# Altium integrated library TI Interface Optical Module IC.IntLib: 48 symbols (part 3 of 4)
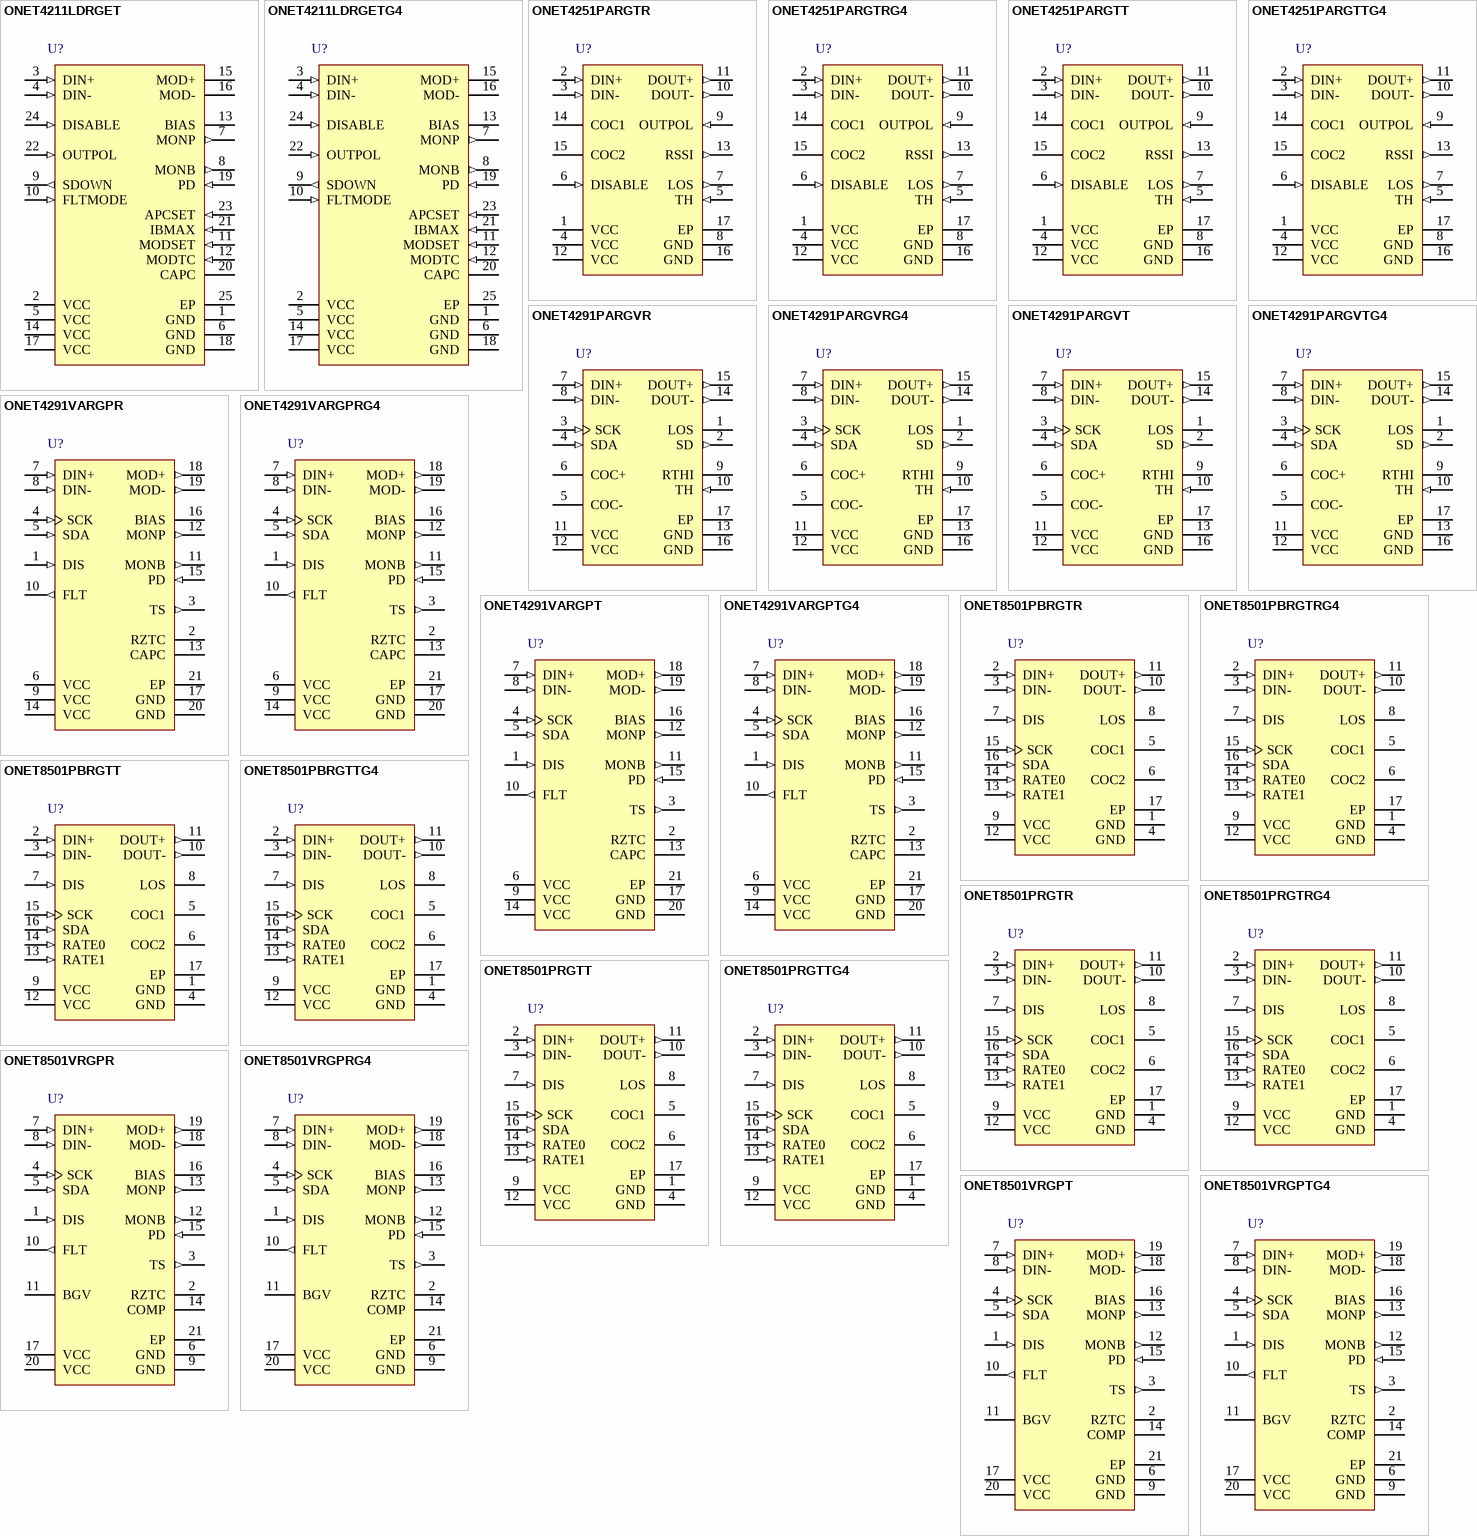
[diagram p3: symbols ONET4211LDRGET to ONET8501VRGPTG4]

## ONET4291PARGVT
designator U?
1-Gbps to 4.25-Gbps Rate-Selectable Limiting Amplifier, 42dB, -40 to 85 degC, 16-Pin VQFN (RGV), Green (RoHS & no Sb/Br); Manufacturer: Texas Instruments; PartNumber: ONET4291PARGVT; Bandwidth Select: TRUE; DJ(Typ)(ps): 5; Gain(Typ)(dB): 42; ICC(Max)(mA): 64; ICC(Nom)(mA): 36; RJ(Max)(ps): 1.5; tf(Typ)(ps): 45; VCC(V): 3.3; Vin Max(Min)(mV p-p): 2000; Vin Min(Nom)(mV p-p): 2.5; DatasheetVersion: SLLS671; PackageVersion: revF, Jun-2011; PackageReference: RGV16-2160X2160TP; PackageDescription: 16-Pin Plastic Quad Flat No-Lead, 4 x 4 mm Body, 0.65 mm Pitch, 2.16 x 2.16 mm Exposed Pad; Supplier 1: Digi-Key; Supplier Part Number 1: ONET4291PARGVT-ND; Supplier 2: Mouser; Supplier Part Number 2: 595-ONET4291PARGVT; Data Rate(Typ)(Gbps): 1-4.25; Eco-Plan: Green (RoHS & no Sb/Br); LOS: TRUE; SubFamily: Limiting Amplifier; tr(Typ)(ps): 45; Mounting Technology: Surface Mount; ComponentLink1Description: Datasheet; ComponentLink1URL: http://www.ti.com/general/docs/lit/getliterature.tsp?genericPartNumber=ONET4291PA&fileType=pdf; ComponentLink2Description: URL Link1; ComponentLink2URL: SamplesURL:http://www.ti.com/product/onet4291pa#samples
footprint RGV16-2160X2160TP (QFN, 16-Leads, Body 4x4mm, Pitch 0.65mm, Thermal Pad 2.16x2.16mm, TI Recommended)
pins: 1 LOS (oc) "High level indicates that the input signal amplitude is below the programmed threshold level.Open-drain output. Requires an external 10-k ohm pullup resistor to VCC for proper operation.", 2 SD (out) "High level indicates that sufficient input signal amplitude is applied to the device. Low level indicates that the input signal amplitude is below the progranned threshold level.", 3 SCK (in) "Two-wire interface serial clock. Includes a 100-k ohm pullup resistor to VCC.", 4 SDA (in) "Two-wire interface serial data input. Includes a 100-k ohm pullup resistor to VCC.", 5 COC- "Offset cancellation filter capacitor minus terminal. An external 0.1-uF filter capacitor must be connectde between this terminal and COC+ (terminal 6)", 6 COC+ "Offset cancellation filter capacitor plus terminal. An external 0.1-uF filter capacitor must be connected between this terminal and COC- (terminal 5)", 7 DIN+ (in) "Non-inverted data input. On-chip 50-ohm terminated to COC+. Differentially 100-ohm terminated to DIN-", 8 DIN- (in) "Inverted data input. On-chip 50-ohm terminated to COC-. Differentially 100-ohm terminated to to DIN+", 9 RTHI "Digitally controlled internal resistor to ground, which can be used for LOS threshold adjustment. A 6-bit-wide control register can be set via the two-wire interface.", 10 TH (in) "LOS threshold adjustment with resistor to GND. For use of the internal digitally controlled resistor,connect TH with RTHI (terminal 9)", 11 VCC (power) "3.3V, +10%/-12% supply voltage", 12 VCC (power) "3.3V, +10%/-12% supply voltage", 13 GND (power) "Circuit ground", 14 DOUT- (out) "Inverted data output. On-chip 50-ohm back-terminated to VCC.", 15 DOUT+ (out) "Non-inverted data output. On-chip 50-ohm back-terminated to VCC.", 16 GND (power) "Circuit ground", 17 EP (power) "Exposed die pad (EP) must be grounded."

## ONET4291PARGVTG4
designator U?
1-Gbps to 4.25-Gbps Rate-Selectable Limiting Amplifier, 42dB, -40 to 85 degC, 16-Pin VQFN (RGV), Green (RoHS & no Sb/Br); Manufacturer: Texas Instruments; PartNumber: ONET4291PARGVTG4; Bandwidth Select: TRUE; DJ(Typ)(ps): 5; Gain(Typ)(dB): 42; ICC(Max)(mA): 64; ICC(Nom)(mA): 36; RJ(Max)(ps): 1.5; tf(Typ)(ps): 45; VCC(V): 3.3; Vin Max(Min)(mV p-p): 2000; Vin Min(Nom)(mV p-p): 2.5; DatasheetVersion: SLLS671; PackageVersion: revF, Jun-2011; PackageReference: RGV16-2160X2160TP; PackageDescription: 16-Pin Plastic Quad Flat No-Lead, 4 x 4 mm Body, 0.65 mm Pitch, 2.16 x 2.16 mm Exposed Pad; Supplier 1: Digi-Key; Supplier Part Number 1: ONET4291PARGVTG4-ND; Supplier 2: Mouser; Supplier Part Number 2: 595-ONET4291PARGVTG4; Data Rate(Typ)(Gbps): 1-4.25; Eco-Plan: Green (RoHS & no Sb/Br); LOS: TRUE; SubFamily: Limiting Amplifier; tr(Typ)(ps): 45; Mounting Technology: Surface Mount; ComponentLink1Description: Datasheet; ComponentLink1URL: http://www.ti.com/general/docs/lit/getliterature.tsp?genericPartNumber=ONET4291PA&fileType=pdf; ComponentLink2Description: URL Link1; ComponentLink2URL: SamplesURL:http://www.ti.com/product/onet4291pa#samples
footprint RGV16-2160X2160TP (QFN, 16-Leads, Body 4x4mm, Pitch 0.65mm, Thermal Pad 2.16x2.16mm, TI Recommended)
pins: 1 LOS (oc) "High level indicates that the input signal amplitude is below the programmed threshold level.Open-drain output. Requires an external 10-k ohm pullup resistor to VCC for proper operation.", 2 SD (out) "High level indicates that sufficient input signal amplitude is applied to the device. Low level indicates that the input signal amplitude is below the progranned threshold level.", 3 SCK (in) "Two-wire interface serial clock. Includes a 100-k ohm pullup resistor to VCC.", 4 SDA (in) "Two-wire interface serial data input. Includes a 100-k ohm pullup resistor to VCC.", 5 COC- "Offset cancellation filter capacitor minus terminal. An external 0.1-uF filter capacitor must be connectde between this terminal and COC+ (terminal 6)", 6 COC+ "Offset cancellation filter capacitor plus terminal. An external 0.1-uF filter capacitor must be connected between this terminal and COC- (terminal 5)", 7 DIN+ (in) "Non-inverted data input. On-chip 50-ohm terminated to COC+. Differentially 100-ohm terminated to DIN-", 8 DIN- (in) "Inverted data input. On-chip 50-ohm terminated to COC-. Differentially 100-ohm terminated to to DIN+", 9 RTHI "Digitally controlled internal resistor to ground, which can be used for LOS threshold adjustment. A 6-bit-wide control register can be set via the two-wire interface.", 10 TH (in) "LOS threshold adjustment with resistor to GND. For use of the internal digitally controlled resistor,connect TH with RTHI (terminal 9)", 11 VCC (power) "3.3V, +10%/-12% supply voltage", 12 VCC (power) "3.3V, +10%/-12% supply voltage", 13 GND (power) "Circuit ground", 14 DOUT- (out) "Inverted data output. On-chip 50-ohm back-terminated to VCC.", 15 DOUT+ (out) "Non-inverted data output. On-chip 50-ohm back-terminated to VCC.", 16 GND (power) "Circuit ground", 17 EP (power) "Exposed die pad (EP) must be grounded."

## ONET4291VARGPR
designator U?
4.25 Gbps VCSEL Driver with Serial Interface and 2 Wire Interface, 14 mA Imod-Max, 3.3 V, -40 to +85 degC, 20-pin QFN (RGP), Green (RoHS & no Sb/Br); Manufacturer: Texas Instruments; PartNumber: ONET4291VARGPR; 2-Wire Interface: TRUE; Data Rate(Typ)(Gbps): 1 to 4.25; DJ(Typ)(ps): 7; Ibias-max(Max)(mA): 11; ICC(Max)(mA): 46; ICC(Typ)(mA): 40; Imod-max(Max)(mA): 14; SubFamily: Laser Driver; Tf-out(Typ)(ps): 35; VCC(V): 3.3; DatasheetVersion: SLLS674; PackageVersion: revG, Jul-2011; PackageReference: RGP20-2700X2700TP; PackageDescription: 20-Pin Plastic Quad Flatpack No-Lead, 4 x 4 mm Body, 0.5 mm Pitch; Supplier 1: Digi-Key; Supplier Part Number 1: ONET4291VARGPR-ND; Supplier 2: Newark; Supplier Part Number 2: 57K1186; Supplier 3: Mouser; Supplier Part Number 3: 595-ONET4291VARGPR; Automatic Power Control Loop: TRUE; Bias Current Digital Select: TRUE; Eco-Plan: Green (RoHS & no Sb/Br); Modulation Current Digital Select: TRUE; Tr-out(Typ)(ps): 35; Mounting Technology: Surface Mount; Code_JEDEC: MO-220; ComponentLink1Description: Datasheet; ComponentLink1URL: http://www.ti.com/general/docs/lit/getliterature.tsp?genericPartNumber=ONET4291VA&fileType=pdf; ComponentLink2Description: URL Link1; ComponentLink2URL: SamplesURL:http://www.ti.com/product/onet4291va#samples
footprint RGP20-2700X2700TP (QFN, 20-Leads, Body 4x4mm, Pitch 0.5mm, Thermal Pad 2.7x2.7mm, TI Recommended)
pins: 1 DIS (in) "Disables both bias and modulation current when set to high state. Toggle to reset a fault condition", 2 RZTC "Connect external zero TC 30-k ohm to ground (GND). Used to generate a defined zero TC reference current for internal DACs.", 3 TS (out) "Temperature sensor output. Not buffered, capacitive load only.", 4 SCK (in) "2-wire interface serial clock. Includes a 100-k ohm pullup resistor to VCC.", 5 SDA (in) "2-wire interface serial data input. Includes a 100-k ohm pullup resistor to VCC", 6 VCC (power) "3.3-V +/-10% supply voltage", 7 DIN+ (in) "Non-inverted data input. On-chip differentially 100-ohm terminated to DIN-. Must be ac coupled.", 8 DIN- (in) "Inverted data input. On-chip differentially 100-ohm terminated to DIN+. Must be ac coupled.", 9 VCC (power) "3.3-V+/-10% supply voltage", 10 FLT (out) "Fault detection flag", 11 MONB (out) "Bias current monitor. Sources an 8.3% replica of the bias current. Connect an external resistor to ground (GND). If the voltage at this pin exceeds 1.2 V a fault is triggered.", 12 MONP (out) "Photodiode current monitor. Sources a 50% replica of the photodiode current. Connect an external resistor to ground (GND).", 13 CAPC "Compensation pin used to control the bandwidth of the APC loop. Connect a 0.01-uF capacitor to ground.", 14 VCC (power) "3.3-V +/-10% supply voltage", 15 PD (in) "Monitor photodiode input. The pin can source or sink current dependent on PDP register setting. Pin supplies >1.5-V reverse bias.", 16 BIAS "VCSEL diode bias current source. Connect to laser anode through inductor. Murata BLM15HG102SN1 is recommended.", 17 GND (power) "Circuit ground.", 18 MOD+ (out) "Non-inverted modulation current output. AC coupled to anode of common cathode VCSEL.On-chip 60-ohm back-terminated to VCC.", 19 MOD- (out) "Inverted modulation current output. AC coupled through VCSEL matching resistor to ground (GND). On-chip 60-ohm back-terminated to VCC.", 20 GND (power) "Circuit ground.", 21 EP (power) "The exposed die pad (EP) must be grounded."

## ONET4291VARGPRG4
designator U?
4.25 Gbps VCSEL Driver with Serial Interface and 2 Wire Interface, 14 mA Imod-Max, 3.3 V, -40 to +85 degC, 20-pin QFN (RGP), Green (RoHS & no Sb/Br); Manufacturer: Texas Instruments; PartNumber: ONET4291VARGPRG4; 2-Wire Interface: TRUE; Data Rate(Typ)(Gbps): 1 to 4.25; DJ(Typ)(ps): 7; Ibias-max(Max)(mA): 11; ICC(Max)(mA): 46; ICC(Typ)(mA): 40; Imod-max(Max)(mA): 14; SubFamily: Laser Driver; Tf-out(Typ)(ps): 35; VCC(V): 3.3; DatasheetVersion: SLLS674; PackageVersion: revG, Jul-2011; PackageReference: RGP20-2700X2700TP; PackageDescription: 20-Pin Plastic Quad Flatpack No-Lead, 4 x 4 mm Body, 0.5 mm Pitch; Supplier 1: Digi-Key; Supplier Part Number 1: ONET4291VARGPRG4-ND; Supplier 2: Newark; Supplier Part Number 2: 61K1313; Supplier 3: Mouser; Supplier Part Number 3: 595-ONET4291VARGPRG4; Automatic Power Control Loop: TRUE; Bias Current Digital Select: TRUE; Eco-Plan: Green (RoHS & no Sb/Br); Modulation Current Digital Select: TRUE; Tr-out(Typ)(ps): 35; Mounting Technology: Surface Mount; Code_JEDEC: MO-220; ComponentLink1Description: Datasheet; ComponentLink1URL: http://www.ti.com/general/docs/lit/getliterature.tsp?genericPartNumber=ONET4291VA&fileType=pdf; ComponentLink2Description: URL Link1; ComponentLink2URL: SamplesURL:http://www.ti.com/product/onet4291va#samples
footprint RGP20-2700X2700TP (QFN, 20-Leads, Body 4x4mm, Pitch 0.5mm, Thermal Pad 2.7x2.7mm, TI Recommended)
pins: 1 DIS (in) "Disables both bias and modulation current when set to high state. Toggle to reset a fault condition", 2 RZTC "Connect external zero TC 30-k ohm to ground (GND). Used to generate a defined zero TC reference current for internal DACs.", 3 TS (out) "Temperature sensor output. Not buffered, capacitive load only.", 4 SCK (in) "2-wire interface serial clock. Includes a 100-k ohm pullup resistor to VCC.", 5 SDA (in) "2-wire interface serial data input. Includes a 100-k ohm pullup resistor to VCC", 6 VCC (power) "3.3-V +/-10% supply voltage", 7 DIN+ (in) "Non-inverted data input. On-chip differentially 100-ohm terminated to DIN-. Must be ac coupled.", 8 DIN- (in) "Inverted data input. On-chip differentially 100-ohm terminated to DIN+. Must be ac coupled.", 9 VCC (power) "3.3-V+/-10% supply voltage", 10 FLT (out) "Fault detection flag", 11 MONB (out) "Bias current monitor. Sources an 8.3% replica of the bias current. Connect an external resistor to ground (GND). If the voltage at this pin exceeds 1.2 V a fault is triggered.", 12 MONP (out) "Photodiode current monitor. Sources a 50% replica of the photodiode current. Connect an external resistor to ground (GND).", 13 CAPC "Compensation pin used to control the bandwidth of the APC loop. Connect a 0.01-uF capacitor to ground.", 14 VCC (power) "3.3-V +/-10% supply voltage", 15 PD (in) "Monitor photodiode input. The pin can source or sink current dependent on PDP register setting. Pin supplies >1.5-V reverse bias.", 16 BIAS "VCSEL diode bias current source. Connect to laser anode through inductor. Murata BLM15HG102SN1 is recommended.", 17 GND (power) "Circuit ground.", 18 MOD+ (out) "Non-inverted modulation current output. AC coupled to anode of common cathode VCSEL.On-chip 60-ohm back-terminated to VCC.", 19 MOD- (out) "Inverted modulation current output. AC coupled through VCSEL matching resistor to ground (GND). On-chip 60-ohm back-terminated to VCC.", 20 GND (power) "Circuit ground.", 21 EP (power) "The exposed die pad (EP) must be grounded."

## ONET4291VARGPT
designator U?
4.25 Gbps VCSEL Driver with Serial Interface and 2 Wire Interface, 14 mA Imod-Max, 3.3 V, -40 to +85 degC, 20-pin QFN (RGP), Green (RoHS & no Sb/Br); Manufacturer: Texas Instruments; PartNumber: ONET4291VARGPT; 2-Wire Interface: TRUE; Data Rate(Typ)(Gbps): 1 to 4.25; DJ(Typ)(ps): 7; Ibias-max(Max)(mA): 11; ICC(Max)(mA): 46; ICC(Typ)(mA): 40; Imod-max(Max)(mA): 14; SubFamily: Laser Driver; Tf-out(Typ)(ps): 35; VCC(V): 3.3; DatasheetVersion: SLLS674; PackageVersion: revG, Jul-2011; PackageReference: RGP20-2700X2700TP; PackageDescription: 20-Pin Plastic Quad Flatpack No-Lead, 4 x 4 mm Body, 0.5 mm Pitch; Supplier 1: Digi-Key; Supplier Part Number 1: 296-22715-2-ND; Supplier 2: Digi-Key; Supplier Part Number 2: 296-22715-1-ND; Supplier 3: Digi-Key; Supplier Part Number 3: 296-22715-6-ND; Supplier 4: Newark; Supplier Part Number 4: 24R9887; Supplier 5: Mouser; Supplier Part Number 5: 595-ONET4291VARGPT; Automatic Power Control Loop: TRUE; Bias Current Digital Select: TRUE; Eco-Plan: Green (RoHS & no Sb/Br); Modulation Current Digital Select: TRUE; Tr-out(Typ)(ps): 35; Mounting Technology: Surface Mount; Code_JEDEC: MO-220; ComponentLink1Description: Datasheet; ComponentLink1URL: http://www.ti.com/general/docs/lit/getliterature.tsp?genericPartNumber=ONET4291VA&fileType=pdf; ComponentLink2Description: URL Link1; ComponentLink2URL: SamplesURL:http://www.ti.com/product/onet4291va#samples
footprint RGP20-2700X2700TP (QFN, 20-Leads, Body 4x4mm, Pitch 0.5mm, Thermal Pad 2.7x2.7mm, TI Recommended)
pins: 1 DIS (in) "Disables both bias and modulation current when set to high state. Toggle to reset a fault condition", 2 RZTC "Connect external zero TC 30-k ohm to ground (GND). Used to generate a defined zero TC reference current for internal DACs.", 3 TS (out) "Temperature sensor output. Not buffered, capacitive load only.", 4 SCK (in) "2-wire interface serial clock. Includes a 100-k ohm pullup resistor to VCC.", 5 SDA (in) "2-wire interface serial data input. Includes a 100-k ohm pullup resistor to VCC", 6 VCC (power) "3.3-V +/-10% supply voltage", 7 DIN+ (in) "Non-inverted data input. On-chip differentially 100-ohm terminated to DIN-. Must be ac coupled.", 8 DIN- (in) "Inverted data input. On-chip differentially 100-ohm terminated to DIN+. Must be ac coupled.", 9 VCC (power) "3.3-V+/-10% supply voltage", 10 FLT (out) "Fault detection flag", 11 MONB (out) "Bias current monitor. Sources an 8.3% replica of the bias current. Connect an external resistor to ground (GND). If the voltage at this pin exceeds 1.2 V a fault is triggered.", 12 MONP (out) "Photodiode current monitor. Sources a 50% replica of the photodiode current. Connect an external resistor to ground (GND).", 13 CAPC "Compensation pin used to control the bandwidth of the APC loop. Connect a 0.01-uF capacitor to ground.", 14 VCC (power) "3.3-V +/-10% supply voltage", 15 PD (in) "Monitor photodiode input. The pin can source or sink current dependent on PDP register setting. Pin supplies >1.5-V reverse bias.", 16 BIAS "VCSEL diode bias current source. Connect to laser anode through inductor. Murata BLM15HG102SN1 is recommended.", 17 GND (power) "Circuit ground.", 18 MOD+ (out) "Non-inverted modulation current output. AC coupled to anode of common cathode VCSEL.On-chip 60-ohm back-terminated to VCC.", 19 MOD- (out) "Inverted modulation current output. AC coupled through VCSEL matching resistor to ground (GND). On-chip 60-ohm back-terminated to VCC.", 20 GND (power) "Circuit ground.", 21 EP (power) "The exposed die pad (EP) must be grounded."

## ONET4291VARGPTG4
designator U?
4.25 Gbps VCSEL Driver with Serial Interface and 2 Wire Interface, 14 mA Imod-Max, 3.3 V, -40 to +85 degC, 20-pin QFN (RGP), Green (RoHS & no Sb/Br); Manufacturer: Texas Instruments; PartNumber: ONET4291VARGPTG4; 2-Wire Interface: TRUE; Data Rate(Typ)(Gbps): 1 to 4.25; DJ(Typ)(ps): 7; Ibias-max(Max)(mA): 11; ICC(Max)(mA): 46; ICC(Typ)(mA): 40; Imod-max(Max)(mA): 14; SubFamily: Laser Driver; Tf-out(Typ)(ps): 35; VCC(V): 3.3; DatasheetVersion: SLLS674; PackageVersion: revG, Jul-2011; PackageReference: RGP20-2700X2700TP; PackageDescription: 20-Pin Plastic Quad Flatpack No-Lead, 4 x 4 mm Body, 0.5 mm Pitch; Supplier 1: Digi-Key; Supplier Part Number 1: ONET4291VARGPTG4-ND; Supplier 2: Newark; Supplier Part Number 2: 24R9888; Supplier 3: Mouser; Supplier Part Number 3: 595-ONET4291VARGPTG4; Automatic Power Control Loop: TRUE; Bias Current Digital Select: TRUE; Eco-Plan: Green (RoHS & no Sb/Br); Modulation Current Digital Select: TRUE; Tr-out(Typ)(ps): 35; Mounting Technology: Surface Mount; Code_JEDEC: MO-220; ComponentLink1Description: Datasheet; ComponentLink1URL: http://www.ti.com/general/docs/lit/getliterature.tsp?genericPartNumber=ONET4291VA&fileType=pdf; ComponentLink2Description: URL Link1; ComponentLink2URL: SamplesURL:http://www.ti.com/product/onet4291va#samples
footprint RGP20-2700X2700TP (QFN, 20-Leads, Body 4x4mm, Pitch 0.5mm, Thermal Pad 2.7x2.7mm, TI Recommended)
pins: 1 DIS (in) "Disables both bias and modulation current when set to high state. Toggle to reset a fault condition", 2 RZTC "Connect external zero TC 30-k ohm to ground (GND). Used to generate a defined zero TC reference current for internal DACs.", 3 TS (out) "Temperature sensor output. Not buffered, capacitive load only.", 4 SCK (in) "2-wire interface serial clock. Includes a 100-k ohm pullup resistor to VCC.", 5 SDA (in) "2-wire interface serial data input. Includes a 100-k ohm pullup resistor to VCC", 6 VCC (power) "3.3-V +/-10% supply voltage", 7 DIN+ (in) "Non-inverted data input. On-chip differentially 100-ohm terminated to DIN-. Must be ac coupled.", 8 DIN- (in) "Inverted data input. On-chip differentially 100-ohm terminated to DIN+. Must be ac coupled.", 9 VCC (power) "3.3-V+/-10% supply voltage", 10 FLT (out) "Fault detection flag", 11 MONB (out) "Bias current monitor. Sources an 8.3% replica of the bias current. Connect an external resistor to ground (GND). If the voltage at this pin exceeds 1.2 V a fault is triggered.", 12 MONP (out) "Photodiode current monitor. Sources a 50% replica of the photodiode current. Connect an external resistor to ground (GND).", 13 CAPC "Compensation pin used to control the bandwidth of the APC loop. Connect a 0.01-uF capacitor to ground.", 14 VCC (power) "3.3-V +/-10% supply voltage", 15 PD (in) "Monitor photodiode input. The pin can source or sink current dependent on PDP register setting. Pin supplies >1.5-V reverse bias.", 16 BIAS "VCSEL diode bias current source. Connect to laser anode through inductor. Murata BLM15HG102SN1 is recommended.", 17 GND (power) "Circuit ground.", 18 MOD+ (out) "Non-inverted modulation current output. AC coupled to anode of common cathode VCSEL.On-chip 60-ohm back-terminated to VCC.", 19 MOD- (out) "Inverted modulation current output. AC coupled through VCSEL matching resistor to ground (GND). On-chip 60-ohm back-terminated to VCC.", 20 GND (power) "Circuit ground.", 21 EP (power) "The exposed die pad (EP) must be grounded."

## ONET8501PBRGTR
designator U?
11.3-Gbps Rate-Selectable Limiting Amplifier, 34dB, -40 to 100 degC, 16-Pin QFN (RGT), Green (RoHS & no Sb/Br); Manufacturer: Texas Instruments; PartNumber: ONET8501PBRGTR; Bandwidth Select: TRUE; Data Rate(Typ)(Gbps): 11.3; DJ(Typ)(ps): 3; Gain(Typ)(dB): 34; ICC(Max)(mA): 63; ICC(Nom)(mA): 50; tf(Typ)(ps): 28; VCC(V): 3.3; Vin Max(Min)(mV p-p): 2000; Vin Min(Nom)(mV p-p): 5; Vout(Min)(mV p-p): 250; DatasheetVersion: SLLS910; PackageVersion: revH, Oct-2011; PackageReference: RGT16-1650X1650TP; PackageDescription: 16-Pin Plastic Quad Flat No-Lead, 3 x 3 mm Body, 0.5 mm Pitch, 1.7 x 1.7 mm Exposed Pad; Supplier 1: Digi-Key; Supplier Part Number 1: ONET8501PBRGTR-ND; Supplier 2: Newark; Supplier Part Number 2: 03P4600; Supplier 3: Mouser; Supplier Part Number 3: 595-ONET8501PBRGTR; Disable: TRUE; Eco-Plan: Green (RoHS & no Sb/Br); LOS: TRUE; SubFamily: Limiting Amplifier; tr(Typ)(ps): 28; Mounting Technology: Surface Mount; Code_JEDEC: MO-220; ComponentLink1Description: Datasheet; ComponentLink1URL: http://www.ti.com/general/docs/lit/getliterature.tsp?genericPartNumber=ONET8501PB&fileType=pdf; ComponentLink2Description: URL Link1; ComponentLink2URL: SamplesURL:http://www.ti.com/product/onet8501pb#samples
footprint RGT16-1650X1650TP (QFN, 16-Leads, Body 3x3mm, Pitch 0.5mm, Thermal Pad 1.7x1.7mm, TI Recommended)
pins: 1 GND (power) "Circuit ground.", 2 DIN+ (in) "Non-inverted data input. Differentially 100 ohm terminated to DIN-", 3 DIN- (in) "Inverted data input. Differentially 100 ohm terminated to DIN+", 4 GND (power) "Circuit ground", 5 COC1 "Offset cancellation filter capacitor plus terminal. An external capacitor can be connected between this pin and COC2 to reduce the low frequency cutoff.To disable the offset cancellation loop,connect COC1 and COC2 together.", 6 COC2 "Offset cancellation filter capacitor minus terminal. An external capacitor can be connected between this pin and COC1 to reduce the low frequency cutoff. To disable the offset cancellation loop, connect COC1 and COC2 (See Datasheet)", 7 DIS (in) "Disables the output stage when set to a high level.", 8 LOS (oc) "High level indicates that the input signal amplitude is below the programmed threshold level. Open drain output. Requires an external 10-k ohm pull-up resistor to VCC for proper operation.", 9 VCC (power) "3.3V +/- 10% supply voltage", 10 DOUT- (out) "Inverted data output. On-chip 50 ohm back-terminated to VCC.", 11 DOUT+ (out) "Non-inverted data output. On-chip 50 ohm back-terminated to VCC.", 12 VCC (power) "3.3V +/- 10% supply voltage.", 13 RATE1 (in) "Bandwidth selection for noise suppression.", 14 RATE0 (in) "Bandwidth selection for noise suppression", 15 SCK (in) "Serial interface clock input. Connect a pull-up resistor (10 k ohm typical) to VCC", 16 SDA (in) "Serial interface data input. Connect a pull-up resistor (10 k ohm typical) to VCC.", 17 EP (power) "Exposed die pad (EP) must be grounded"

## ONET8501PBRGTRG4
designator U?
11.3-Gbps Rate-Selectable Limiting Amplifier, 34dB, -40 to 100 degC, 16-Pin QFN (RGT), Green (RoHS & no Sb/Br); Manufacturer: Texas Instruments; PartNumber: ONET8501PBRGTRG4; Bandwidth Select: TRUE; Data Rate(Typ)(Gbps): 11.3; DJ(Typ)(ps): 3; Gain(Typ)(dB): 34; ICC(Max)(mA): 63; ICC(Nom)(mA): 50; tf(Typ)(ps): 28; VCC(V): 3.3; Vin Max(Min)(mV p-p): 2000; Vin Min(Nom)(mV p-p): 5; Vout(Min)(mV p-p): 250; DatasheetVersion: SLLS910; PackageVersion: revH, Oct-2011; PackageReference: RGT16-1650X1650TP; PackageDescription: 16-Pin Plastic Quad Flat No-Lead, 3 x 3 mm Body, 0.5 mm Pitch, 1.7 x 1.7 mm Exposed Pad; Supplier 1: Digi-Key; Supplier Part Number 1: ONET8501PBRGTRG4-ND; Supplier 2: Mouser; Supplier Part Number 2: 595-ONET8501PBRGTRG4; Disable: TRUE; Eco-Plan: Green (RoHS & no Sb/Br); LOS: TRUE; SubFamily: Limiting Amplifier; tr(Typ)(ps): 28; Mounting Technology: Surface Mount; Code_JEDEC: MO-220; ComponentLink1Description: Datasheet; ComponentLink1URL: http://www.ti.com/general/docs/lit/getliterature.tsp?genericPartNumber=ONET8501PB&fileType=pdf; ComponentLink2Description: URL Link1; ComponentLink2URL: SamplesURL:http://www.ti.com/product/onet8501pb#samples
footprint RGT16-1650X1650TP (QFN, 16-Leads, Body 3x3mm, Pitch 0.5mm, Thermal Pad 1.7x1.7mm, TI Recommended)
pins: 1 GND (power) "Circuit ground.", 2 DIN+ (in) "Non-inverted data input. Differentially 100 ohm terminated to DIN-", 3 DIN- (in) "Inverted data input. Differentially 100 ohm terminated to DIN+", 4 GND (power) "Circuit ground", 5 COC1 "Offset cancellation filter capacitor plus terminal. An external capacitor can be connected between this pin and COC2 to reduce the low frequency cutoff.To disable the offset cancellation loop,connect COC1 and COC2 together.", 6 COC2 "Offset cancellation filter capacitor minus terminal. An external capacitor can be connected between this pin and COC1 to reduce the low frequency cutoff. To disable the offset cancellation loop, connect COC1 and COC2 (See Datasheet)", 7 DIS (in) "Disables the output stage when set to a high level.", 8 LOS (oc) "High level indicates that the input signal amplitude is below the programmed threshold level. Open drain output. Requires an external 10-k ohm pull-up resistor to VCC for proper operation.", 9 VCC (power) "3.3V +/- 10% supply voltage", 10 DOUT- (out) "Inverted data output. On-chip 50 ohm back-terminated to VCC.", 11 DOUT+ (out) "Non-inverted data output. On-chip 50 ohm back-terminated to VCC.", 12 VCC (power) "3.3V +/- 10% supply voltage.", 13 RATE1 (in) "Bandwidth selection for noise suppression.", 14 RATE0 (in) "Bandwidth selection for noise suppression", 15 SCK (in) "Serial interface clock input. Connect a pull-up resistor (10 k ohm typical) to VCC", 16 SDA (in) "Serial interface data input. Connect a pull-up resistor (10 k ohm typical) to VCC.", 17 EP (power) "Exposed die pad (EP) must be grounded"

## ONET8501PBRGTT
designator U?
11.3-Gbps Rate-Selectable Limiting Amplifier, 34dB, -40 to 100 degC, 16-Pin QFN (RGT), Green (RoHS & no Sb/Br); Manufacturer: Texas Instruments; PartNumber: ONET8501PBRGTT; Bandwidth Select: TRUE; Data Rate(Typ)(Gbps): 11.3; DJ(Typ)(ps): 3; Gain(Typ)(dB): 34; ICC(Max)(mA): 63; ICC(Nom)(mA): 50; tf(Typ)(ps): 28; VCC(V): 3.3; Vin Max(Min)(mV p-p): 2000; Vin Min(Nom)(mV p-p): 5; Vout(Min)(mV p-p): 250; DatasheetVersion: SLLS910; PackageVersion: revH, Oct-2011; PackageReference: RGT16-1650X1650TP; PackageDescription: 16-Pin Plastic Quad Flat No-Lead, 3 x 3 mm Body, 0.5 mm Pitch, 1.7 x 1.7 mm Exposed Pad; Supplier 1: Digi-Key; Supplier Part Number 1: 296-23641-2-ND; Supplier 2: Digi-Key; Supplier Part Number 2: 296-23641-1-ND; Supplier 3: Digi-Key; Supplier Part Number 3: 296-23641-6-ND; Supplier 4: Newark; Supplier Part Number 4: 03P4601; Supplier 5: Mouser; Supplier Part Number 5: 595-ONET8501PBRGTT; Disable: TRUE; Eco-Plan: Green (RoHS & no Sb/Br); LOS: TRUE; SubFamily: Limiting Amplifier; tr(Typ)(ps): 28; Mounting Technology: Surface Mount; Code_JEDEC: MO-220; ComponentLink1Description: Datasheet; ComponentLink1URL: http://www.ti.com/general/docs/lit/getliterature.tsp?genericPartNumber=ONET8501PB&fileType=pdf; ComponentLink2Description: URL Link1; ComponentLink2URL: SamplesURL:http://www.ti.com/product/onet8501pb#samples
footprint RGT16-1650X1650TP (QFN, 16-Leads, Body 3x3mm, Pitch 0.5mm, Thermal Pad 1.7x1.7mm, TI Recommended)
pins: 1 GND (power) "Circuit ground.", 2 DIN+ (in) "Non-inverted data input. Differentially 100 ohm terminated to DIN-", 3 DIN- (in) "Inverted data input. Differentially 100 ohm terminated to DIN+", 4 GND (power) "Circuit ground", 5 COC1 "Offset cancellation filter capacitor plus terminal. An external capacitor can be connected between this pin and COC2 to reduce the low frequency cutoff.To disable the offset cancellation loop,connect COC1 and COC2 together.", 6 COC2 "Offset cancellation filter capacitor minus terminal. An external capacitor can be connected between this pin and COC1 to reduce the low frequency cutoff. To disable the offset cancellation loop, connect COC1 and COC2 (See Datasheet)", 7 DIS (in) "Disables the output stage when set to a high level.", 8 LOS (oc) "High level indicates that the input signal amplitude is below the programmed threshold level. Open drain output. Requires an external 10-k ohm pull-up resistor to VCC for proper operation.", 9 VCC (power) "3.3V +/- 10% supply voltage", 10 DOUT- (out) "Inverted data output. On-chip 50 ohm back-terminated to VCC.", 11 DOUT+ (out) "Non-inverted data output. On-chip 50 ohm back-terminated to VCC.", 12 VCC (power) "3.3V +/- 10% supply voltage.", 13 RATE1 (in) "Bandwidth selection for noise suppression.", 14 RATE0 (in) "Bandwidth selection for noise suppression", 15 SCK (in) "Serial interface clock input. Connect a pull-up resistor (10 k ohm typical) to VCC", 16 SDA (in) "Serial interface data input. Connect a pull-up resistor (10 k ohm typical) to VCC.", 17 EP (power) "Exposed die pad (EP) must be grounded"

## ONET8501PBRGTTG4
designator U?
11.3-Gbps Rate-Selectable Limiting Amplifier, 34dB, -40 to 100 degC, 16-Pin QFN (RGT), Green (RoHS & no Sb/Br); Manufacturer: Texas Instruments; PartNumber: ONET8501PBRGTTG4; Bandwidth Select: TRUE; Data Rate(Typ)(Gbps): 11.3; DJ(Typ)(ps): 3; Gain(Typ)(dB): 34; ICC(Max)(mA): 63; ICC(Nom)(mA): 50; tf(Typ)(ps): 28; VCC(V): 3.3; Vin Max(Min)(mV p-p): 2000; Vin Min(Nom)(mV p-p): 5; Vout(Min)(mV p-p): 250; DatasheetVersion: SLLS910; PackageVersion: revH, Oct-2011; PackageReference: RGT16-1650X1650TP; PackageDescription: 16-Pin Plastic Quad Flat No-Lead, 3 x 3 mm Body, 0.5 mm Pitch, 1.7 x 1.7 mm Exposed Pad; Supplier 1: Digi-Key; Supplier Part Number 1: ONET8501PBRGTTG4-ND; Supplier 2: Mouser; Supplier Part Number 2: 595-ONET8501PBRGTTG4; Disable: TRUE; Eco-Plan: Green (RoHS & no Sb/Br); LOS: TRUE; SubFamily: Limiting Amplifier; tr(Typ)(ps): 28; Mounting Technology: Surface Mount; Code_JEDEC: MO-220; ComponentLink1Description: Datasheet; ComponentLink1URL: http://www.ti.com/general/docs/lit/getliterature.tsp?genericPartNumber=ONET8501PB&fileType=pdf; ComponentLink2Description: URL Link1; ComponentLink2URL: SamplesURL:http://www.ti.com/product/onet8501pb#samples
footprint RGT16-1650X1650TP (QFN, 16-Leads, Body 3x3mm, Pitch 0.5mm, Thermal Pad 1.7x1.7mm, TI Recommended)
pins: 1 GND (power) "Circuit ground.", 2 DIN+ (in) "Non-inverted data input. Differentially 100 ohm terminated to DIN-", 3 DIN- (in) "Inverted data input. Differentially 100 ohm terminated to DIN+", 4 GND (power) "Circuit ground", 5 COC1 "Offset cancellation filter capacitor plus terminal. An external capacitor can be connected between this pin and COC2 to reduce the low frequency cutoff.To disable the offset cancellation loop,connect COC1 and COC2 together.", 6 COC2 "Offset cancellation filter capacitor minus terminal. An external capacitor can be connected between this pin and COC1 to reduce the low frequency cutoff. To disable the offset cancellation loop, connect COC1 and COC2 (See Datasheet)", 7 DIS (in) "Disables the output stage when set to a high level.", 8 LOS (oc) "High level indicates that the input signal amplitude is below the programmed threshold level. Open drain output. Requires an external 10-k ohm pull-up resistor to VCC for proper operation.", 9 VCC (power) "3.3V +/- 10% supply voltage", 10 DOUT- (out) "Inverted data output. On-chip 50 ohm back-terminated to VCC.", 11 DOUT+ (out) "Non-inverted data output. On-chip 50 ohm back-terminated to VCC.", 12 VCC (power) "3.3V +/- 10% supply voltage.", 13 RATE1 (in) "Bandwidth selection for noise suppression.", 14 RATE0 (in) "Bandwidth selection for noise suppression", 15 SCK (in) "Serial interface clock input. Connect a pull-up resistor (10 k ohm typical) to VCC", 16 SDA (in) "Serial interface data input. Connect a pull-up resistor (10 k ohm typical) to VCC.", 17 EP (power) "Exposed die pad (EP) must be grounded"

## ONET8501PRGTR
designator U?
11.3-Gbps Rate-Selectable Limiting Amplifier, 40dB, -40 to 100 degC, 16-Pin QFN (RGT), Green (RoHS & no Sb/Br); Manufacturer: Texas Instruments; PartNumber: ONET8501PRGTR; Bandwidth Select: TRUE; Data Rate(Typ)(Gbps): 11.3; DJ(Typ)(ps): 4; Gain(Typ)(dB): 40; ICC(Max)(mA): 61; ICC(Nom)(mA): 48; RJ(Max)(ps): 1; tf(Typ)(ps): 25; VCC(V): 3.3; Vin Max(Min)(mV p-p): 2000; Vin Min(Nom)(mV p-p): 5; Vout(Min)(mV p-p): 500; DatasheetVersion: SLLS885; PackageVersion: revH, Oct-2011; PackageReference: RGT16-1650X1650TP; PackageDescription: 16-Pin Plastic Quad Flat No-Lead, 3 x 3 mm Body, 0.5 mm Pitch, 1.7 x 1.7 mm Exposed Pad; Supplier 1: Digi-Key; Supplier Part Number 1: 296-23128-2-ND; Supplier 2: Digi-Key; Supplier Part Number 2: 296-23128-1-ND; Supplier 3: Digi-Key; Supplier Part Number 3: 296-23128-6-ND; Supplier 4: Newark; Supplier Part Number 4: 84M9675; Supplier 5: Mouser; Supplier Part Number 5: 595-ONET8501PRGTR; Disable: TRUE; Eco-Plan: Green (RoHS & no Sb/Br); LOS: TRUE; SubFamily: Limiting Amplifier; tr(Typ)(ps): 25; Mounting Technology: Surface Mount; Code_JEDEC: MO-220; ComponentLink1Description: Datasheet; ComponentLink1URL: http://www.ti.com/general/docs/lit/getliterature.tsp?genericPartNumber=ONET8501P&fileType=pdf; ComponentLink2Description: URL Link1; ComponentLink2URL: SamplesURL:http://www.ti.com/product/onet8501p#samples
footprint RGT16-1650X1650TP (QFN, 16-Leads, Body 3x3mm, Pitch 0.5mm, Thermal Pad 1.7x1.7mm, TI Recommended)
pins: 1 GND (power) "Circuit ground.", 2 DIN+ (in) "Non-inverted data input. Differentially 100-ohm terminated to DIN-.", 3 DIN- (in) "Inverted data input. Differentially 100-ohm terminated to DIN+.", 4 GND (power) "Circuit ground.", 5 COC1 "Offset cancellation filter capacitor plus terminal. An external capacitor can be connected between this pin and COC2 to reduce the low frequency cutoff. [see datasheet]", 6 COC2 "Offset cancellation filter capacitor minus terminal. An external capacitor can be connected between this pin and COC1 to reduce the low frequency cutoff. [see datasheet]", 7 DIS (in) "Disables the output stage when set to a high level.", 8 LOS (oc) "High level indicates that the input signal amplitude is below the programmed threshold level. Open drain output. [see datasheet]", 9 VCC (power) "3.3-V +/- 10% supply voltage", 10 DOUT- (out) "Inverted data output. On-chip 50-ohm back-terminated to VCC", 11 DOUT+ (out) "Non-inverted data output. On-chip 50-ohm back-terminated to VCC", 12 VCC (power) "3.3-V +/- 10% supply voltage", 13 RATE1 (in) "Bandwidth selection for noise suppression", 14 RATE0 (in) "Bandwidth selection for noise suppression", 15 SCK (in) "Serial interface clock input. Connect a pull-up resistor (10-kohm typical) to VCC", 16 SDA (in) "Serial interface data input. Connect a pull-up resistor (10-kohm typical) to VCC", 17 EP (power) "Exposed die pad (EP) must be grounded."

## ONET8501PRGTRG4
designator U?
11.3-Gbps Rate-Selectable Limiting Amplifier, 40dB, -40 to 100 degC, 16-Pin QFN (RGT), Green (RoHS & no Sb/Br); Manufacturer: Texas Instruments; PartNumber: ONET8501PRGTRG4; Bandwidth Select: TRUE; Data Rate(Typ)(Gbps): 11.3; DJ(Typ)(ps): 4; Gain(Typ)(dB): 40; ICC(Max)(mA): 61; ICC(Nom)(mA): 48; RJ(Max)(ps): 1; tf(Typ)(ps): 25; VCC(V): 3.3; Vin Max(Min)(mV p-p): 2000; Vin Min(Nom)(mV p-p): 5; Vout(Min)(mV p-p): 500; DatasheetVersion: SLLS885; PackageVersion: revH, Oct-2011; PackageReference: RGT16-1650X1650TP; PackageDescription: 16-Pin Plastic Quad Flat No-Lead, 3 x 3 mm Body, 0.5 mm Pitch, 1.7 x 1.7 mm Exposed Pad; Supplier 1: Digi-Key; Supplier Part Number 1: ONET8501PRGTRG4-ND; Supplier 2: Mouser; Supplier Part Number 2: 595-ONET8501PRGTRG4; Disable: TRUE; Eco-Plan: Green (RoHS & no Sb/Br); LOS: TRUE; SubFamily: Limiting Amplifier; tr(Typ)(ps): 25; Mounting Technology: Surface Mount; Code_JEDEC: MO-220; ComponentLink1Description: Datasheet; ComponentLink1URL: http://www.ti.com/general/docs/lit/getliterature.tsp?genericPartNumber=ONET8501P&fileType=pdf; ComponentLink2Description: URL Link1; ComponentLink2URL: SamplesURL:http://www.ti.com/product/onet8501p#samples
footprint RGT16-1650X1650TP (QFN, 16-Leads, Body 3x3mm, Pitch 0.5mm, Thermal Pad 1.7x1.7mm, TI Recommended)
pins: 1 GND (power) "Circuit ground.", 2 DIN+ (in) "Non-inverted data input. Differentially 100-ohm terminated to DIN-.", 3 DIN- (in) "Inverted data input. Differentially 100-ohm terminated to DIN+.", 4 GND (power) "Circuit ground.", 5 COC1 "Offset cancellation filter capacitor plus terminal. An external capacitor can be connected between this pin and COC2 to reduce the low frequency cutoff. [see datasheet]", 6 COC2 "Offset cancellation filter capacitor minus terminal. An external capacitor can be connected between this pin and COC1 to reduce the low frequency cutoff. [see datasheet]", 7 DIS (in) "Disables the output stage when set to a high level.", 8 LOS (oc) "High level indicates that the input signal amplitude is below the programmed threshold level. Open drain output. [see datasheet]", 9 VCC (power) "3.3-V +/- 10% supply voltage", 10 DOUT- (out) "Inverted data output. On-chip 50-ohm back-terminated to VCC", 11 DOUT+ (out) "Non-inverted data output. On-chip 50-ohm back-terminated to VCC", 12 VCC (power) "3.3-V +/- 10% supply voltage", 13 RATE1 (in) "Bandwidth selection for noise suppression", 14 RATE0 (in) "Bandwidth selection for noise suppression", 15 SCK (in) "Serial interface clock input. Connect a pull-up resistor (10-kohm typical) to VCC", 16 SDA (in) "Serial interface data input. Connect a pull-up resistor (10-kohm typical) to VCC", 17 EP (power) "Exposed die pad (EP) must be grounded."

## ONET8501PRGTT
designator U?
11.3-Gbps Rate-Selectable Limiting Amplifier, 40dB, -40 to 100 degC, 16-Pin QFN (RGT), Green (RoHS & no Sb/Br); Manufacturer: Texas Instruments; PartNumber: ONET8501PRGTT; Bandwidth Select: TRUE; Data Rate(Typ)(Gbps): 11.3; DJ(Typ)(ps): 4; Gain(Typ)(dB): 40; ICC(Max)(mA): 61; ICC(Nom)(mA): 48; RJ(Max)(ps): 1; tf(Typ)(ps): 25; VCC(V): 3.3; Vin Max(Min)(mV p-p): 2000; Vin Min(Nom)(mV p-p): 5; Vout(Min)(mV p-p): 500; DatasheetVersion: SLLS885; PackageVersion: revH, Oct-2011; PackageReference: RGT16-1650X1650TP; PackageDescription: 16-Pin Plastic Quad Flat No-Lead, 3 x 3 mm Body, 0.5 mm Pitch, 1.7 x 1.7 mm Exposed Pad; Supplier 1: Digi-Key; Supplier Part Number 1: ONET8501PRGTT-ND; Supplier 2: Newark; Supplier Part Number 2: 84M9676; Supplier 3: Mouser; Supplier Part Number 3: 595-ONET8501PRGTT; Disable: TRUE; Eco-Plan: Green (RoHS & no Sb/Br); LOS: TRUE; SubFamily: Limiting Amplifier; tr(Typ)(ps): 25; Mounting Technology: Surface Mount; Code_JEDEC: MO-220; ComponentLink1Description: Datasheet; ComponentLink1URL: http://www.ti.com/general/docs/lit/getliterature.tsp?genericPartNumber=ONET8501P&fileType=pdf; ComponentLink2Description: URL Link1; ComponentLink2URL: SamplesURL:http://www.ti.com/product/onet8501p#samples
footprint RGT16-1650X1650TP (QFN, 16-Leads, Body 3x3mm, Pitch 0.5mm, Thermal Pad 1.7x1.7mm, TI Recommended)
pins: 1 GND (power) "Circuit ground.", 2 DIN+ (in) "Non-inverted data input. Differentially 100-ohm terminated to DIN-.", 3 DIN- (in) "Inverted data input. Differentially 100-ohm terminated to DIN+.", 4 GND (power) "Circuit ground.", 5 COC1 "Offset cancellation filter capacitor plus terminal. An external capacitor can be connected between this pin and COC2 to reduce the low frequency cutoff. [see datasheet]", 6 COC2 "Offset cancellation filter capacitor minus terminal. An external capacitor can be connected between this pin and COC1 to reduce the low frequency cutoff. [see datasheet]", 7 DIS (in) "Disables the output stage when set to a high level.", 8 LOS (oc) "High level indicates that the input signal amplitude is below the programmed threshold level. Open drain output. [see datasheet]", 9 VCC (power) "3.3-V +/- 10% supply voltage", 10 DOUT- (out) "Inverted data output. On-chip 50-ohm back-terminated to VCC", 11 DOUT+ (out) "Non-inverted data output. On-chip 50-ohm back-terminated to VCC", 12 VCC (power) "3.3-V +/- 10% supply voltage", 13 RATE1 (in) "Bandwidth selection for noise suppression", 14 RATE0 (in) "Bandwidth selection for noise suppression", 15 SCK (in) "Serial interface clock input. Connect a pull-up resistor (10-kohm typical) to VCC", 16 SDA (in) "Serial interface data input. Connect a pull-up resistor (10-kohm typical) to VCC", 17 EP (power) "Exposed die pad (EP) must be grounded."

## ONET8501PRGTTG4
designator U?
11.3-Gbps Rate-Selectable Limiting Amplifier, 40dB, -40 to 100 degC, 16-Pin QFN (RGT), Green (RoHS & no Sb/Br); Manufacturer: Texas Instruments; PartNumber: ONET8501PRGTTG4; Bandwidth Select: TRUE; Data Rate(Typ)(Gbps): 11.3; DJ(Typ)(ps): 4; Gain(Typ)(dB): 40; ICC(Max)(mA): 61; ICC(Nom)(mA): 48; RJ(Max)(ps): 1; tf(Typ)(ps): 25; VCC(V): 3.3; Vin Max(Min)(mV p-p): 2000; Vin Min(Nom)(mV p-p): 5; Vout(Min)(mV p-p): 500; DatasheetVersion: SLLS885; PackageVersion: revH, Oct-2011; PackageReference: RGT16-1650X1650TP; PackageDescription: 16-Pin Plastic Quad Flat No-Lead, 3 x 3 mm Body, 0.5 mm Pitch, 1.7 x 1.7 mm Exposed Pad; Supplier 1: Digi-Key; Supplier Part Number 1: ONET8501PRGTTG4-ND; Supplier 2: Newark; Supplier Part Number 2: 84M9677; Supplier 3: Mouser; Supplier Part Number 3: 595-ONET8501PRGTTG4; Disable: TRUE; Eco-Plan: Green (RoHS & no Sb/Br); LOS: TRUE; SubFamily: Limiting Amplifier; tr(Typ)(ps): 25; Mounting Technology: Surface Mount; Code_JEDEC: MO-220; ComponentLink1Description: Datasheet; ComponentLink1URL: http://www.ti.com/general/docs/lit/getliterature.tsp?genericPartNumber=ONET8501P&fileType=pdf; ComponentLink2Description: URL Link1; ComponentLink2URL: SamplesURL:http://www.ti.com/product/onet8501p#samples
footprint RGT16-1650X1650TP (QFN, 16-Leads, Body 3x3mm, Pitch 0.5mm, Thermal Pad 1.7x1.7mm, TI Recommended)
pins: 1 GND (power) "Circuit ground.", 2 DIN+ (in) "Non-inverted data input. Differentially 100-ohm terminated to DIN-.", 3 DIN- (in) "Inverted data input. Differentially 100-ohm terminated to DIN+.", 4 GND (power) "Circuit ground.", 5 COC1 "Offset cancellation filter capacitor plus terminal. An external capacitor can be connected between this pin and COC2 to reduce the low frequency cutoff. [see datasheet]", 6 COC2 "Offset cancellation filter capacitor minus terminal. An external capacitor can be connected between this pin and COC1 to reduce the low frequency cutoff. [see datasheet]", 7 DIS (in) "Disables the output stage when set to a high level.", 8 LOS (oc) "High level indicates that the input signal amplitude is below the programmed threshold level. Open drain output. [see datasheet]", 9 VCC (power) "3.3-V +/- 10% supply voltage", 10 DOUT- (out) "Inverted data output. On-chip 50-ohm back-terminated to VCC", 11 DOUT+ (out) "Non-inverted data output. On-chip 50-ohm back-terminated to VCC", 12 VCC (power) "3.3-V +/- 10% supply voltage", 13 RATE1 (in) "Bandwidth selection for noise suppression", 14 RATE0 (in) "Bandwidth selection for noise suppression", 15 SCK (in) "Serial interface clock input. Connect a pull-up resistor (10-kohm typical) to VCC", 16 SDA (in) "Serial interface data input. Connect a pull-up resistor (10-kohm typical) to VCC", 17 EP (power) "Exposed die pad (EP) must be grounded."

## ONET8501VRGPR
designator U?
11.3 Gbps Differential VCSEL Driver with Output Waveform Shaping and 2 Wire Interface, 24 mA Imod-Max, 3.3 V, -40 to +85 degC, 20-pin QFN (RGP), Green (RoHS & no Sb/Br); Manufacturer: Texas Instruments; PartNumber: ONET8501VRGPR; 2-Wire Interface: TRUE; Data Rate(Typ)(Gbps): 11.3; DJ(Typ)(ps): 4; Ibias-max(Max)(mA): 20; ICC(Max)(mA): 90; ICC(Typ)(mA): 50; Imod-max(Max)(mA): 24; SubFamily: Laser Driver; VCC(V): 3.3; DatasheetVersion: SLLS837B; PackageVersion: revG, Jul-2011; PackageReference: RGP20-2700X2700TP; PackageDescription: 20-Pin Plastic Quad Flatpack No-Lead, 4 x 4 mm Body, 0.5 mm Pitch; Supplier 1: Digi-Key; Supplier Part Number 1: ONET8501VRGPR-ND; Supplier 2: Newark; Supplier Part Number 2: 48M0891; Supplier 3: Mouser; Supplier Part Number 3: 595-ONET8501VRGPR; Automatic Power Control Loop: TRUE; Bias Current Digital Select: TRUE; Eco-Plan: Green (RoHS & no Sb/Br); Modulation Current Digital Select: TRUE; Tf-out(Typ)(ps): 24; Tr-out(Typ)(ps): 24; Mounting Technology: Surface Mount; Code_JEDEC: MO-220; ComponentLink1Description: Datasheet; ComponentLink1URL: http://www.ti.com/general/docs/lit/getliterature.tsp?genericPartNumber=ONET8501V&fileType=pdf; ComponentLink2Description: URL Link1; ComponentLink2URL: SamplesURL:http://www.ti.com/product/onet8501v#samples
footprint RGP20-2700X2700TP (QFN, 20-Leads, Body 4x4mm, Pitch 0.5mm, Thermal Pad 2.7x2.7mm, TI Recommended)
pins: 1 DIS (in) "Disables bias, modulation and peaking currents when set to high state. Toggle to reset a fault condition.Recommend shorting pin to GND if disable feature is not used.", 2 RZTC "Connect external zero TC 28.7k ohm resistor to ground (GND). Used to generate a defined zero TCreference current for internal DACs.", 3 TS (out) "Temperature sensor output.", 4 SCK (in) "2-wire interface serial clock. Includes a pull-up resistor to VCC.", 5 SDA (in) "2-wire interface serial data input. Includes a pull-up resistor to VCC.", 6 GND (power) "Circuit ground.", 7 DIN+ (in) "Non-inverted data input. On-chip differentially 100 ohm terminated to DIN-. Must be AC coupled.", 8 DIN- (in) "Inverted data input. On-chip differentially 100 ohm terminated to DIN+. Must be AC coupled.", 9 GND (power) "Circuit ground.", 10 FLT (out) "Fault detection flag. LVCMOS output with source and sink capability.", 11 BGV (oc) "Buffered bandgap voltage with 1.16V output. This is a replica of the bandgap voltage at RZTC. For best matching, use the same 28.7k ohm resistor to GND as used at RZTC.", 12 MONB (out) "Bias current monitor. Sources a 3.5% replica of the bias current. Connect an external resistor to ground(GND). If the voltage at this pin exceeds 1.16V a fault is triggered. Typically choose a resistor to give MONB voltage (See Datasheet)", 13 MONP (out) "Photodiode current monitor. Sources a 27% replica of the photodiode current when PDR = 10, a 54% replica when PDR = 01, and a 270% replica when PDR=00. Connect an external resistor (5k ohm typical) to ground (GND).", 14 COMP "Compensation pin used to control the bandwidth of the APC loop. Connect a 0.01uF capacitor to ground.", 15 PD (in) "Photodiode input. Pin can source or sink current dependent on register setting.", 16 BIAS "Sinks average bias current for VCSEL in both APC and open loop modes. Connect to laser cathode through an inductor. BLM15HG102SN1D recommended.", 17 VCC (power) "3.3V +/- 10% supply voltage.", 18 MOD- (out) "Inverted modulation current output. On-chip 50ohm back-terminated to VCC. IMOD flows into this pin when input data is low.", 19 MOD+ (out) "Non-inverted modulation current output. On-chip 50 ohm back-terminated to VCC. IMOD flows into this pin when input data is high.", 20 VCC (power) "3.3V +/- 10% supply voltage.", 21 EP (power) "Exposed die pad (EP) must be grounded."